# EAGLE library part 691317710008 (library Wurth_Elektronik_Electromechanic_Terminal_Blocks_Connectors_rev16b)
WR-TBL Serie 3177 - 5.0mm Close Horizontal PCB Header with Flanges , 8 Pins=>Code : Con_TBL_Pluggable_5.00_PCB_H_691317710008 <http://katalog.we-online.de/media/images/eican/Con_TBL_Pluggable_5.00_PCB_H_6913177100xx_pf2.jpg> Details see: http://katalog.we-online.de/en/em/691_317_710_0xx Created 2014-06-20, Karrer Zheng 2014 (C) Würth Elektronik
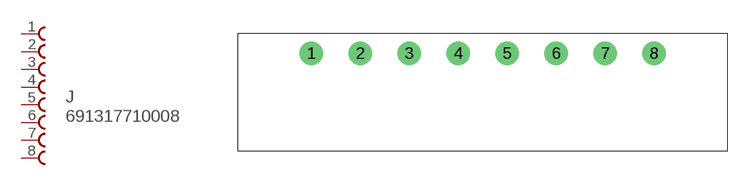
[diagram p70: symbol with the pads of 691317710008; footprint 691317710008]

Designator prefix J

## 691317710008  [691317710008]
1  1  pas
2  2  pas
3  3  pas
4  4  pas
5  5  pas
6  6  pas
7  7  pas
8  8  pas

## Footprint 691317710008 (pad centres in mm)
WR-TBL Serie 3177 - 5.0mm Close Horizontal PCB Header with Flanges , 8 Pins
drill 1.6: 1 -20,0; 2 -15,0; 3 -10,0; 4 -5,0; 5 0,0; 6 5,0; 7 10,0; 8 15,0